# Altium footprint library RESISTOR_TH_POWER(25X10).PcbLib: 1 footprints
Each footprint in its own frame and in the unit in brackets; x right, y up, seen from the top. Pads: shape width x height; smd on the part's side, far side on the other; paste and mask are expansions set on the pad; w line width, h text height; cw(c..) or ccw(c..) is an arc to the next point about the centre after c.
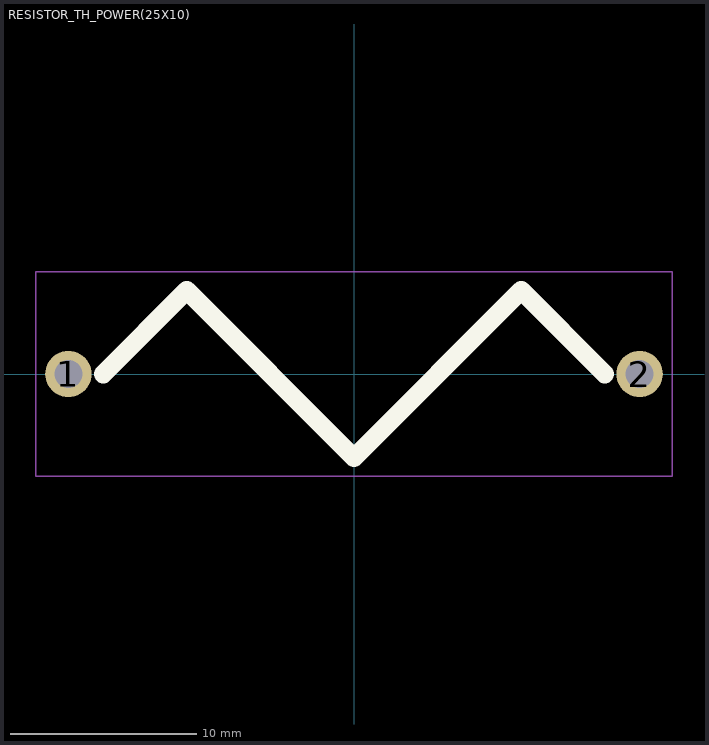
[diagram p0: the footprint, top view; thin cyan lines are the x and y axes]

## RESISTOR_TH_POWER(25X10) [mm]
pads (2):
  round 2.5 hole 1.5: 1(-15.375,0) 2(15.375,0)
Top Overlay:
  lines w1: -13.5,0 -9,4.5 0,-4.5 9,4.5 13.5,0
Top Courtyard:
  lines w0.1: -17.125,-5.5 -17.125,5.5 17.125,5.5 17.125,-5.5 -12.475,-5.5 -17.125,-5.5
3D body: height 10, standoff 0, extent -12.5,-5 12.5,5